# Altium footprint library EDGE-CON-08MM-20X2.PcbLib: 1 footprints
Each footprint in its own frame and in the unit in brackets; x right, y up, seen from the top. Pads: shape width x height; smd on the part's side, far side on the other; paste and mask are expansions set on the pad; w line width, h text height; cw(c..) or ccw(c..) is an arc to the next point about the centre after c.
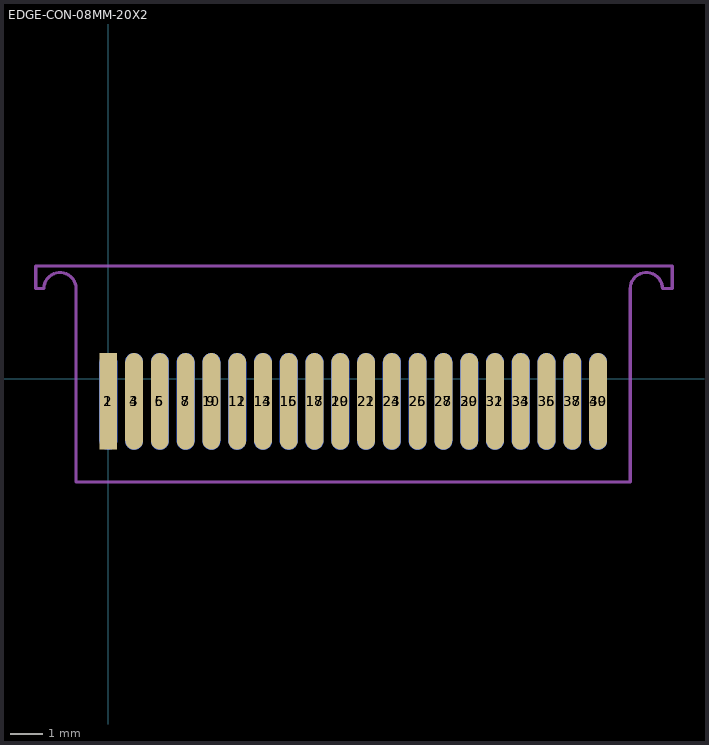
[diagram p0: the footprint, top view; thin cyan lines are the x and y axes]

## EDGE-CON-08MM-20X2 [mm]
pads (40):
  rect 0.55x3 smd paste-10 mask-10: 1(0,-0.7)
  oval 0.55x3 smd far side paste-10 mask-10: 2(0,-0.7) 4(0.8,-0.7) 6(1.6,-0.7) 8(2.4,-0.7) 10(3.2,-0.7) 12(4,-0.7) 14(4.8,-0.7) 16(5.6,-0.7) 18(6.4,-0.7) 20(7.2,-0.7) 22(8,-0.7) 24(8.8,-0.7) 26(9.6,-0.7) 28(10.4,-0.7) 30(11.2,-0.7) 32(12,-0.7) 34(12.8,-0.7) 36(13.6,-0.7) 38(14.4,-0.7) 40(15.2,-0.7)
  oval 0.55x3 smd paste-10 mask-10: 3(0.8,-0.7) 5(1.6,-0.7) 7(2.4,-0.7) 9(3.2,-0.7) 11(4,-0.7) 13(4.8,-0.7) 15(5.6,-0.7) 17(6.4,-0.7) 19(7.2,-0.7) 21(8,-0.7) 23(8.8,-0.7) 25(9.6,-0.7) 27(10.4,-0.7) 29(11.2,-0.7) 31(12,-0.7) 33(12.8,-0.7) 35(13.6,-0.7) 37(14.4,-0.7) 39(15.2,-0.7)
Top Solder:
  rectangle: -1,-3.2 16.2,2.8
Bottom Solder:
  rectangle: -1,-3.2 16.2,2.8
Mechanical 15:
  lines w0.1: -2.25,2.8 -2.25,3.5 17.5,3.5 17.5,2.8 17.2,2.8 ccw(c16.7,2.8) 16.2,2.8 16.2,-3.2 -1,-3.2 -1,2.8 ccw(c-1.5,2.8) -2,2.8 -2.25,2.8